# EAGLE library part PIC18F13K50 (library microchip-7)
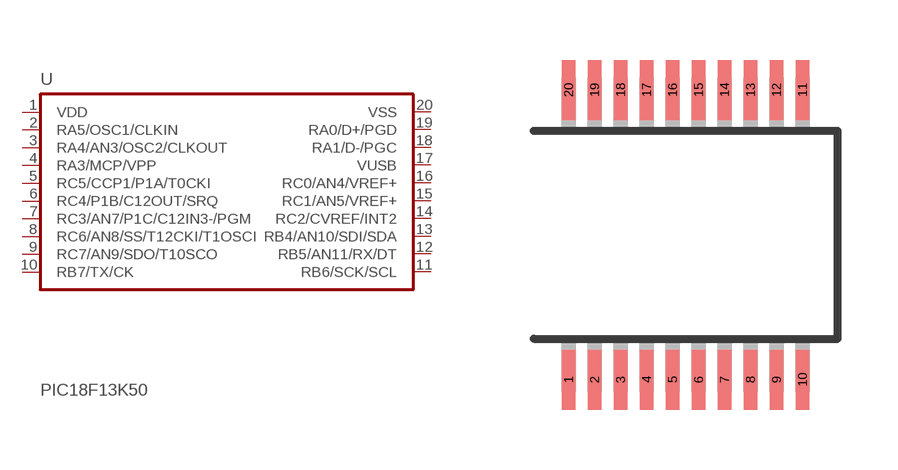
[diagram p131: symbol with the pads of SSOP20; footprint SSOP20]

Designator prefix -

## PIC18F13K50  [SSOP20]
1  VDD  pwr
2  RA5/OSC1/CLKIN  pwr
3  RA4/AN3/OSC2/CLKOUT  in
4  RA3/MCP/VPP
5  RC5/CCP1/P1A/T0CKI
6  RC4/P1B/C12OUT/SRQ
7  RC3/AN7/P1C/C12IN3-/PGM
8  RC6/AN8/SS/T12CKI/T1OSCI
9  RC7/AN9/SDO/T10SCO
10  RB7/TX/CK  pwr
11  RB6/SCK/SCL
12  RB5/AN11/RX/DT
13  RB4/AN10/SDI/SDA
14  RC2/CVREF/INT2
15  RC1/AN5/VREF+
16  RC0/AN4/VREF+
17  VUSB
18  RA1/D-/PGC
19  RA0/D+/PGD
20  VSS  pwr

## Footprint SSOP20 (pad centres in mm)
Shrink Small Outline Package package type SS
smd 0.33 x 1.5: 1 -2.925,-3.625; 2 -2.275,-3.625; 3 -1.625,-3.625; 4 -0.975,-3.625; 5 -0.325,-3.625; 6 0.325,-3.625; 7 0.975,-3.625; 8 1.625,-3.625; 9 2.275,-3.625; 10 2.925,-3.625; 11 2.925,3.625; 12 2.275,3.625; 13 1.625,3.625; 14 0.975,3.625; 15 0.325,3.625; 16 -0.325,3.625; 17 -0.975,3.625; 18 -1.625,3.625; 19 -2.275,3.625; 20 -2.925,3.625